# Altium schematic symbol library TL431.Schlib: 1 symbol
Pins are listed as number, name and electrical type; pins without a type are passive.

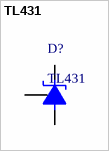
[diagram p0: symbol TL431]

## TL431
designator D?
pins: A, C, REF